# Altium footprint library Sensors-V.PcbLib: 1 footprints
Each footprint in its own frame and in the unit in brackets; x right, y up, seen from the top. Pads: shape width x height; smd on the part's side, far side on the other; paste and mask are expansions set on the pad; w line width, h text height; cw(c..) or ccw(c..) is an arc to the next point about the centre after c.
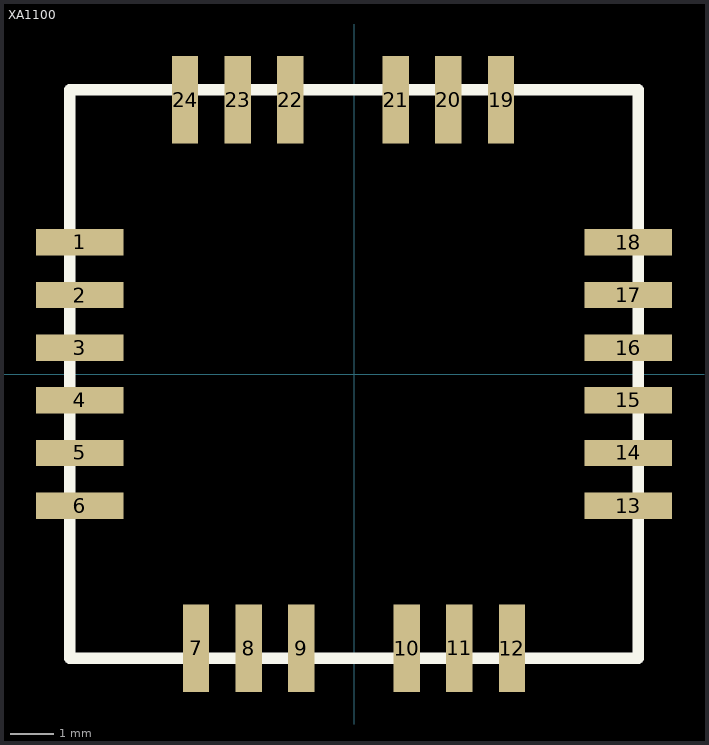
[diagram p0: the footprint, top view; thin cyan lines are the x and y axes]

## XA1100 [mm] "GPS Module"
height 6.8
pads (24):
  rect 2x0.6 smd: 1(-6.25,3) 2(-6.25,1.8) 3(-6.25,0.6) 4(-6.25,-0.6) 5(-6.25,-1.8) 6(-6.25,-3) 13(6.25,-3) 14(6.25,-1.8) 15(6.25,-0.6) 16(6.25,0.6) 17(6.25,1.8) 18(6.25,3)
  rect 0.6x2 smd: 7(-3.6,-6.25) 8(-2.4,-6.25) 9(-1.2,-6.25) 10(1.2,-6.25) 11(2.4,-6.25) 12(3.6,-6.25) 19(3.35,6.25) 20(2.15,6.25) 21(0.95,6.25) 22(-1.45,6.25) 23(-2.65,6.25) 24(-3.85,6.25)
Top Overlay:
  lines w0.254: -6.477,-6.477 6.477,-6.477 6.477,6.477 -6.477,6.477 -6.477,-6.477
3D body: height 7, standoff 0, extent -6.25,-6.25 6.25,6.25